# Altium footprint library PCB - LEADED - SOP - LTC MSOP-16 MSE16.PCBLIB: 1 footprints
Each footprint in its own frame and in the unit in brackets; x right, y up, seen from the top. Pads: shape width x height; smd on the part's side, far side on the other; paste and mask are expansions set on the pad; w line width, h text height; cw(c..) or ccw(c..) is an arc to the next point about the centre after c.
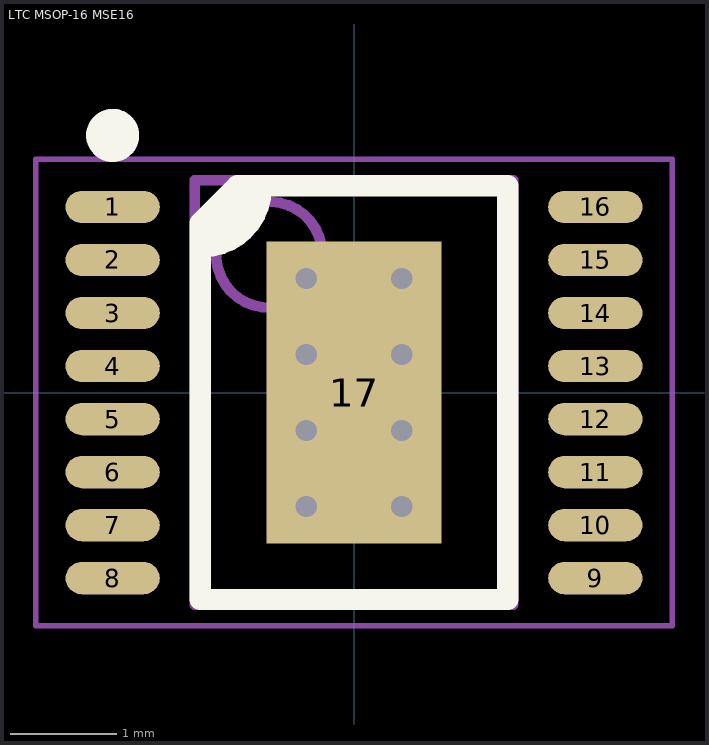
[diagram p0: the footprint, top view; thin cyan lines are the x and y axes]

## LTC MSOP-16 MSE16 [mm] "16-Lead Plastic MSOP, Exposed Die Pad"
height 1.1
pads (17):
  oval 0.889x0.305 smd: 1(-2.275,1.75) 2(-2.275,1.25) 3(-2.275,0.75) 4(-2.275,0.25) 5(-2.275,-0.25) 6(-2.275,-0.75) 7(-2.275,-1.25) 8(-2.275,-1.75) 9(2.275,-1.75) 10(2.275,-1.25) 11(2.275,-0.75) 12(2.275,-0.25) 13(2.275,0.25) 14(2.275,0.75) 15(2.275,1.25) 16(2.275,1.75)
  rect 1.651x2.845 smd: 17(0,0)
via 0.45,-1.075 diameter 0.5 hole 0.2
via 0.45,-0.358 diameter 0.5 hole 0.2
via 0.45,0.358 diameter 0.5 hole 0.2
via 0.45,1.075 diameter 0.5 hole 0.2
via -0.45,-1.075 diameter 0.5 hole 0.2
via -0.45,-0.358 diameter 0.5 hole 0.2
via -0.45,0.358 diameter 0.5 hole 0.2
via -0.45,1.075 diameter 0.5 hole 0.2
Top Overlay:
  circle w0.25: c-2.275,2.425 r0.125
  region: -1.45,1.6 -1.1,1.95 -0.75,1.95 -1.225,1.375 -1.45,1.375
  lines w0.2: -1.425,1.375 ccw(c-1.425,1.925) -0.875,1.925 ; -1.45,-1.95 -1.45,1.6 -1.1,1.95 1.45,1.95 1.45,-1.95 -1.45,-1.95
Mechanical 13:
  circle w0.1: c-0.8,1.3 r0.5
  lines w0.1: -1.5,-2 1.5,-2 1.5,2 -1.5,2 -1.5,-2
Mechanical 15:
  lines w0.05: -3,-2.2 3,-2.2 3,2.2 -3,2.2 -3,-2.2
Mechanical 2 (Mech9):
  lines w0.1: -0.5,0 0.5,0 ; 0,-0.5 0,0.5
3D body "LTC - MSOP-16.step": height 1.1, standoff 0, extent -2.488,-2.045 2.488,2.045